# EAGLE library part MICRO_SD_SNIFFER (library Underwater-Camera-v2.0)
SparkFun microSD sniffer - breaks out SDIO interface https://www.sparkfun.com/products/9419
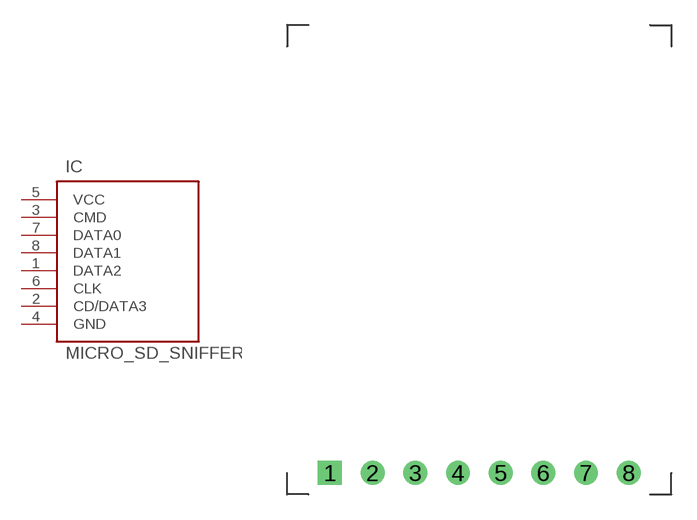
[diagram p17: symbol with the pads of MICRO_SD_SDIO; footprint MICRO_SD_SDIO]

Designator prefix IC

## MICRO_SD_SNIFFER  [MICRO_SD_SDIO]
1  DATA2
2  CD/DATA3
3  CMD
4  GND
5  VCC
6  CLK
7  DATA0
8  DATA1

## Footprint MICRO_SD_SDIO (pad centres in mm)
SparkFun micro SD sniffer
drill 0.8 pad 1.422 square: 1 -8.89,-12.7
drill 0.8 pad 1.422: 2 -6.35,-12.7; 3 -3.81,-12.7; 4 -1.27,-12.7; 5 1.27,-12.7; 6 3.81,-12.7; 7 6.35,-12.7; 8 8.89,-12.7